# EAGLE library part NRF51_MODULE (library nrf51_hid_joy)
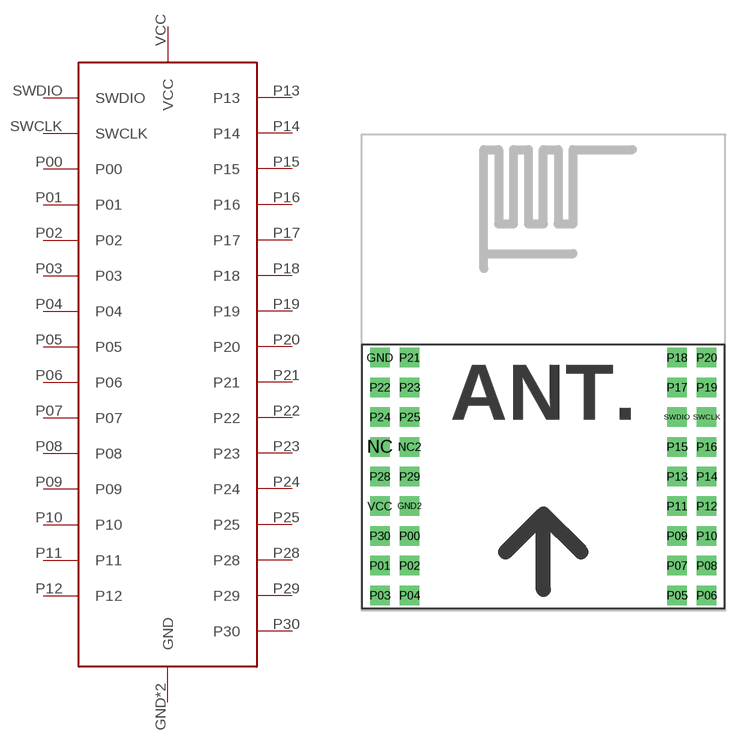
[diagram p0: symbol with the pads of NRF51-MODULE; footprint NRF51-MODULE]

Designator prefix -

## NRF51_MODULEBIG  [NRF51-MODULE]
GND  GND
GND2  GND
P00  P00
P01  P01
P02  P02
P03  P03
P04  P04
P05  P05
P06  P06
P07  P07
P08  P08
P09  P09
P10  P10
P11  P11
P12  P12
P13  P13
P14  P14
P15  P15
P16  P16
P17  P17
P18  P18
P19  P19
P20  P20
P21  P21
P22  P22
P23  P23
P24  P24
P25  P25
P28  P28
P29  P29
P30  P30
SWCLK  SWCLK
SWDIO  SWDIO
VCC  VCC

## Footprint NRF51-MODULE (pad centres in mm)
drill 0.8 square: GND -11,8; GND2 -9,-2; NC -11,2; NC2 -9,2; P00 -9,-4; P01 -11,-6; P02 -9,-6; P03 -11,-8; P04 -9,-8; P05 9,-8; P06 11,-8; P07 9,-6; P08 11,-6; P09 9,-4; P10 11,-4; P11 9,-2; P12 11,-2; P13 9,0; P14 11,0; P15 9,2; P16 11,2; P17 9,6; P18 9,8; P19 11,6; P20 11,8; P21 -9,8; P22 -11,6; P23 -9,6; P24 -11,4; P25 -9,4; P28 -11,0; P29 -9,0; P30 -11,-4; SWCLK 11,4; SWDIO 9,4; VCC -11,-2